# Altium integrated library Altium_WE-PD_rev22g.IntLib: 360 symbols (part 2 of 7)
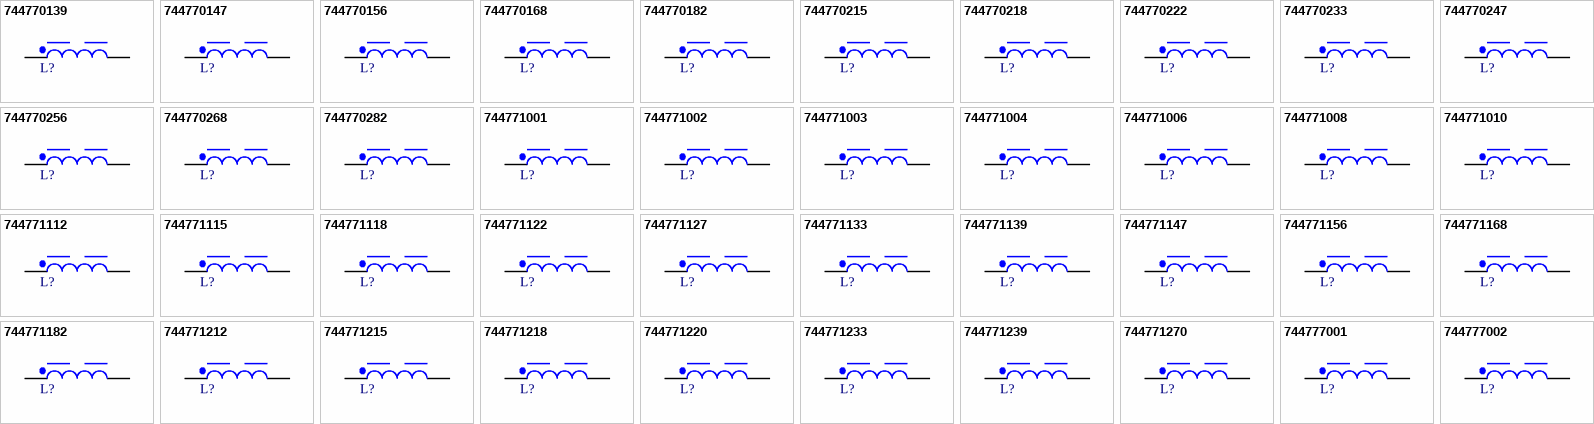
[diagram p9: symbols 744770139 to 744777002]

## 744771004
designator L?, comment 4.7uH, 8.25A  (value not drawn)
WE-PD SMT Power Inductor, size 1260, 4.7uH, 8.25A, 11mOhm; Manufacturer Part Number: 744771004; Manufacturer: Wurth Elektronik; Case/Size Code: 1260; DC Resistance: 8.5mOhm; Self Resonant Frequency: 35MHz; Type: Standard; Category: Power Inductors; Match Code: WE-PD; ComponentLink1Description: Website Link; ComponentLink1URL: https://www.we-online.com/redexpert/article/744771004?ad; ComponentLink2Description: Datasheet Link; ComponentLink2URL: https://www.we-online.com/redexpert/spec/744771004?ad; Mount: Surface Mount; Operating Temperature Max: 125°C; Operating Temperature Min: -40°C; Packaging: Tape and Reel; Length: 12mm; Width: 12mm; Height: 6mm; DC Resistance Max: 11mOhm; Inductance: 4.7uH; Rated Current: 8.25A; Saturation Current: 8.25A
footprint WE-PD_1260
simulation model 1260_744771004_4.7u
pins: 1, 2

## 744771006
designator L?, comment 6.8uH, 6.3A  (value not drawn)
WE-PD SMT Power Inductor, size 1260, 6.8uH, 6.3A, 18mOhm; Manufacturer Part Number: 744771006; Manufacturer: Wurth Elektronik; Case/Size Code: 1260; DC Resistance: 14mOhm; Saturation Current: 6.5A; Self Resonant Frequency: 27MHz; Type: Standard; Category: Power Inductors; Match Code: WE-PD; ComponentLink1Description: Website Link; ComponentLink1URL: https://www.we-online.com/redexpert/article/744771006?ad; ComponentLink2Description: Datasheet Link; ComponentLink2URL: https://www.we-online.com/redexpert/spec/744771006?ad; Mount: Surface Mount; Operating Temperature Max: 125°C; Operating Temperature Min: -40°C; Packaging: Tape and Reel; Length: 12mm; Width: 12mm; Height: 6mm; DC Resistance Max: 18mOhm; Inductance: 6.8uH; Rated Current: 6.3A
footprint WE-PD_1260
simulation model 1260_744771006_6.8u
pins: 1, 2

## 744771008
designator L?, comment 8.2uH, 6.2A  (value not drawn)
WE-PD SMT Power Inductor, size 1260, 8.2uH, 6.2A, 20mOhm; Manufacturer Part Number: 744771008; Manufacturer: Wurth Elektronik; Case/Size Code: 1260; DC Resistance: 15.5mOhm; Self Resonant Frequency: 25MHz; Type: Standard; Category: Power Inductors; Match Code: WE-PD; ComponentLink1Description: Website Link; ComponentLink1URL: https://www.we-online.com/redexpert/article/744771008?ad; ComponentLink2Description: Datasheet Link; ComponentLink2URL: https://www.we-online.com/redexpert/spec/744771008?ad; Mount: Surface Mount; Operating Temperature Max: 125°C; Operating Temperature Min: -40°C; Packaging: Tape and Reel; Length: 12mm; Width: 12mm; Height: 6mm; DC Resistance Max: 20mOhm; Inductance: 8.2uH; Rated Current: 6.2A; Saturation Current: 6.2A
footprint WE-PD_1260
simulation model 1260_744771008_8.2u
pins: 1, 2

## 744771010
designator L?, comment 1uH, 14A  (value not drawn)
WE-PD SMT Power Inductor, size 1260, 1uH, 14A, 5mOhm; Manufacturer Part Number: 744771010; Manufacturer: Wurth Elektronik; Case/Size Code: 1260; DC Resistance: 3mOhm; Saturation Current: 15.6A; Self Resonant Frequency: 88MHz; Category: Power Inductors; Match Code: WE-PD; ComponentLink1Description: Website Link; ComponentLink1URL: https://www.we-online.com/redexpert/article/744771010?ad; ComponentLink2Description: Datasheet Link; ComponentLink2URL: https://www.we-online.com/redexpert/spec/744771010?ad; Mount: Surface Mount; Operating Temperature Max: 125°C; Operating Temperature Min: -40°C; Packaging: Tape and Reel; Length: 12mm; Width: 12mm; Height: 6mm; DC Resistance Max: 5mOhm; Inductance: 1uH; Rated Current: 14A
footprint WE-PD_1260
simulation model 1260_744771010_1u
pins: 1, 2

## 744771112
designator L?, comment 12uH, 4.5A  (value not drawn)
WE-PD SMT Power Inductor, size 1260, 12uH, 4.5A, 26mOhm; Manufacturer Part Number: 744771112; Manufacturer: Wurth Elektronik; Case/Size Code: 1260; DC Resistance: 20mOhm; Saturation Current: 4.9A; Self Resonant Frequency: 19.7MHz; Type: Standard; Category: Power Inductors; Match Code: WE-PD; ComponentLink1Description: Website Link; ComponentLink1URL: https://www.we-online.com/redexpert/article/744771112?ad; ComponentLink2Description: Datasheet Link; ComponentLink2URL: https://www.we-online.com/redexpert/spec/744771112?ad; Mount: Surface Mount; Operating Temperature Max: 125°C; Operating Temperature Min: -40°C; Packaging: Tape and Reel; Length: 12mm; Width: 12mm; Height: 6mm; DC Resistance Max: 26mOhm; Inductance: 12uH; Rated Current: 4.5A
footprint WE-PD_1260
simulation model 1260_744771112_12u
pins: 1, 2

## 744771115
designator L?, comment 15uH, 4.2A  (value not drawn)
WE-PD SMT Power Inductor, size 1260, 15uH, 4.2A, 28mOhm; Manufacturer Part Number: 744771115; Manufacturer: Wurth Elektronik; Case/Size Code: 1260; DC Resistance: 22mOhm; Saturation Current: 4.5A; Self Resonant Frequency: 16.6MHz; Type: Standard; Category: Power Inductors; Match Code: WE-PD; ComponentLink1Description: Website Link; ComponentLink1URL: https://www.we-online.com/redexpert/article/744771115?ad; ComponentLink2Description: Datasheet Link; ComponentLink2URL: https://www.we-online.com/redexpert/spec/744771115?ad; Mount: Surface Mount; Operating Temperature Max: 125°C; Operating Temperature Min: -40°C; Packaging: Tape and Reel; Length: 12mm; Width: 12mm; Height: 6mm; DC Resistance Max: 28mOhm; Inductance: 15uH; Rated Current: 4.2A
footprint WE-PD_1260
simulation model 1260_744771115_15u
pins: 1, 2

## 744771118
designator L?, comment 18uH, 4A  (value not drawn)
WE-PD SMT Power Inductor, size 1260, 18uH, 4A, 30mOhm; Manufacturer Part Number: 744771118; Manufacturer: Wurth Elektronik; Case/Size Code: 1260; DC Resistance: 24mOhm; Saturation Current: 4.2A; Self Resonant Frequency: 15MHz; Type: Standard; Category: Power Inductors; Match Code: WE-PD; ComponentLink1Description: Website Link; ComponentLink1URL: https://www.we-online.com/redexpert/article/744771118?ad; ComponentLink2Description: Datasheet Link; ComponentLink2URL: https://www.we-online.com/redexpert/spec/744771118?ad; Mount: Surface Mount; Operating Temperature Max: 125°C; Operating Temperature Min: -40°C; Packaging: Tape and Reel; Length: 12mm; Width: 12mm; Height: 6mm; DC Resistance Max: 30mOhm; Inductance: 18uH; Rated Current: 4A
footprint WE-PD_1260
simulation model 1260_744771118_18u
pins: 1, 2

## 744771122
designator L?, comment 22uH, 3.5A  (value not drawn)
WE-PD SMT Power Inductor, size 1260, 22uH, 3.5A, 36mOhm; Manufacturer Part Number: 744771122; Manufacturer: Wurth Elektronik; Case/Size Code: 1260; DC Resistance: 30mOhm; Saturation Current: 3.7A; Self Resonant Frequency: 13.5MHz; Type: Standard; Category: Power Inductors; Match Code: WE-PD; ComponentLink1Description: Website Link; ComponentLink1URL: https://www.we-online.com/redexpert/article/744771122?ad; ComponentLink2Description: Datasheet Link; ComponentLink2URL: https://www.we-online.com/redexpert/spec/744771122?ad; Mount: Surface Mount; Operating Temperature Max: 125°C; Operating Temperature Min: -40°C; Packaging: Tape and Reel; Length: 12mm; Width: 12mm; Height: 6mm; DC Resistance Max: 36mOhm; Inductance: 22uH; Rated Current: 3.5A
footprint WE-PD_1260
simulation model 1260_744771122_22u
pins: 1, 2

## 744771127
designator L?, comment 27uH, 3.3A  (value not drawn)
WE-PD SMT Power Inductor, size 1260, 27uH, 3.3A, 45mOhm; Manufacturer Part Number: 744771127; Manufacturer: Wurth Elektronik; Case/Size Code: 1260; DC Resistance: 37mOhm; Saturation Current: 3.5A; Self Resonant Frequency: 12MHz; Type: Standard; Category: Power Inductors; Match Code: WE-PD; ComponentLink1Description: Website Link; ComponentLink1URL: https://www.we-online.com/redexpert/article/744771127?ad; ComponentLink2Description: Datasheet Link; ComponentLink2URL: https://www.we-online.com/redexpert/spec/744771127?ad; Mount: Surface Mount; Operating Temperature Max: 125°C; Operating Temperature Min: -40°C; Packaging: Tape and Reel; Length: 12mm; Width: 12mm; Height: 6mm; DC Resistance Max: 45mOhm; Inductance: 27uH; Rated Current: 3.3A
footprint WE-PD_1260
simulation model 1260_744771127_27u
pins: 1, 2

## 744771133
designator L?, comment 33uH, 2.8A  (value not drawn)
WE-PD SMT Power Inductor, size 1260, 33uH, 2.8A, 57mOhm; Manufacturer Part Number: 744771133; Manufacturer: Wurth Elektronik; Case/Size Code: 1260; DC Resistance: 49mOhm; Saturation Current: 3A; Self Resonant Frequency: 11MHz; Type: Standard; Category: Power Inductors; Match Code: WE-PD; ComponentLink1Description: Website Link; ComponentLink1URL: https://www.we-online.com/redexpert/article/744771133?ad; ComponentLink2Description: Datasheet Link; ComponentLink2URL: https://www.we-online.com/redexpert/spec/744771133?ad; Mount: Surface Mount; Operating Temperature Max: 125°C; Operating Temperature Min: -40°C; Packaging: Tape and Reel; Length: 12mm; Width: 12mm; Height: 6mm; DC Resistance Max: 57mOhm; Inductance: 33uH; Rated Current: 2.8A
footprint WE-PD_1260
simulation model 1260_744771133_33u
pins: 1, 2

## 744771139
designator L?, comment 39uH, 2.5A  (value not drawn)
WE-PD SMT Power Inductor, size 1260, 39uH, 2.5A, 68mOhm; Manufacturer Part Number: 744771139; Manufacturer: Wurth Elektronik; Case/Size Code: 1260; DC Resistance: 57mOhm; Saturation Current: 2.7A; Self Resonant Frequency: 10MHz; Type: Standard; Category: Power Inductors; Match Code: WE-PD; ComponentLink1Description: Website Link; ComponentLink1URL: https://www.we-online.com/redexpert/article/744771139?ad; ComponentLink2Description: Datasheet Link; ComponentLink2URL: https://www.we-online.com/redexpert/spec/744771139?ad; Mount: Surface Mount; Operating Temperature Max: 125°C; Operating Temperature Min: -40°C; Packaging: Tape and Reel; Length: 12mm; Width: 12mm; Height: 6mm; DC Resistance Max: 68mOhm; Inductance: 39uH; Rated Current: 2.5A
footprint WE-PD_1260
simulation model 1260_744771139_39u
pins: 1, 2

## 744771147
designator L?, comment 47uH, 2.4A  (value not drawn)
WE-PD SMT Power Inductor, size 1260, 47uH, 2.4A, 77mOhm; Manufacturer Part Number: 744771147; Manufacturer: Wurth Elektronik; Case/Size Code: 1260; DC Resistance: 64mOhm; Saturation Current: 2.6A; Self Resonant Frequency: 9.2MHz; Type: Standard; Category: Power Inductors; Match Code: WE-PD; ComponentLink1Description: Website Link; ComponentLink1URL: https://www.we-online.com/redexpert/article/744771147?ad; ComponentLink2Description: Datasheet Link; ComponentLink2URL: https://www.we-online.com/redexpert/spec/744771147?ad; Mount: Surface Mount; Operating Temperature Max: 125°C; Operating Temperature Min: -40°C; Packaging: Tape and Reel; Length: 12mm; Width: 12mm; Height: 6mm; DC Resistance Max: 77mOhm; Inductance: 47uH; Rated Current: 2.4A
footprint WE-PD_1260
simulation model 1260_744771147_47u
pins: 1, 2

## 744771156
designator L?, comment 56uH, 2.1A  (value not drawn)
WE-PD SMT Power Inductor, size 1260, 56uH, 2.1A, 92mOhm; Manufacturer Part Number: 744771156; Manufacturer: Wurth Elektronik; Case/Size Code: 1260; DC Resistance: 77mOhm; Saturation Current: 2.3A; Self Resonant Frequency: 8MHz; Type: Standard; Category: Power Inductors; Match Code: WE-PD; ComponentLink1Description: Website Link; ComponentLink1URL: https://www.we-online.com/redexpert/article/744771156?ad; ComponentLink2Description: Datasheet Link; ComponentLink2URL: https://www.we-online.com/redexpert/spec/744771156?ad; Mount: Surface Mount; Operating Temperature Max: 125°C; Operating Temperature Min: -40°C; Packaging: Tape and Reel; Length: 12mm; Width: 12mm; Height: 6mm; DC Resistance Max: 92mOhm; Inductance: 56uH; Rated Current: 2.1A
footprint WE-PD_1260
simulation model 1260_744771156_56u
pins: 1, 2

## 744771168
designator L?, comment 68uH, 2A  (value not drawn)
WE-PD SMT Power Inductor, size 1260, 68uH, 2A, 105mOhm; Manufacturer Part Number: 744771168; Manufacturer: Wurth Elektronik; Case/Size Code: 1260; DC Resistance: 86mOhm; Saturation Current: 2.2A; Self Resonant Frequency: 7.6MHz; Type: Standard; Category: Power Inductors; Match Code: WE-PD; ComponentLink1Description: Website Link; ComponentLink1URL: https://www.we-online.com/redexpert/article/744771168?ad; ComponentLink2Description: Datasheet Link; ComponentLink2URL: https://www.we-online.com/redexpert/spec/744771168?ad; Mount: Surface Mount; Operating Temperature Max: 125°C; Operating Temperature Min: -40°C; Packaging: Tape and Reel; Length: 12mm; Width: 12mm; Height: 6mm; DC Resistance Max: 105mOhm; Inductance: 68uH; Rated Current: 2A
footprint WE-PD_1260
simulation model 1260_744771168_68u
pins: 1, 2

## 744771182
designator L?, comment 82uH, 1.8A  (value not drawn)
WE-PD SMT Power Inductor, size 1260, 82uH, 1.8A, 135mOhm; Manufacturer Part Number: 744771182; Manufacturer: Wurth Elektronik; Case/Size Code: 1260; DC Resistance: 112mOhm; Saturation Current: 1.9A; Self Resonant Frequency: 7.2MHz; Type: Standard; Category: Power Inductors; Match Code: WE-PD; ComponentLink1Description: Website Link; ComponentLink1URL: https://www.we-online.com/redexpert/article/744771182?ad; ComponentLink2Description: Datasheet Link; ComponentLink2URL: https://www.we-online.com/redexpert/spec/744771182?ad; Mount: Surface Mount; Operating Temperature Max: 125°C; Operating Temperature Min: -40°C; Packaging: Tape and Reel; Length: 12mm; Width: 12mm; Height: 6mm; DC Resistance Max: 135mOhm; Inductance: 82uH; Rated Current: 1.8A
footprint WE-PD_1260
simulation model 1260_744771182_82u
pins: 1, 2

## 744771212
designator L?, comment 120uH, 1.5A  (value not drawn)
WE-PD SMT Power Inductor, size 1260, 120uH, 1.5A, 180mOhm; Manufacturer Part Number: 744771212; Manufacturer: Wurth Elektronik; Case/Size Code: 1260; DC Resistance: 150mOhm; Saturation Current: 1.6A; Self Resonant Frequency: 5.2MHz; Type: Standard; Category: Power Inductors; Match Code: WE-PD; ComponentLink1Description: Website Link; ComponentLink1URL: https://www.we-online.com/redexpert/article/744771212?ad; ComponentLink2Description: Datasheet Link; ComponentLink2URL: https://www.we-online.com/redexpert/spec/744771212?ad; Mount: Surface Mount; Operating Temperature Max: 125°C; Operating Temperature Min: -40°C; Packaging: Tape and Reel; Length: 12mm; Width: 12mm; Height: 6mm; DC Resistance Max: 180mOhm; Inductance: 120uH; Rated Current: 1.5A
footprint WE-PD_1260
simulation model 1260_744771212_120u
pins: 1, 2

## 744771215
designator L?, comment 150uH, 1.3A  (value not drawn)
WE-PD SMT Power Inductor, size 1260, 150uH, 1.3A, 220mOhm; Manufacturer Part Number: 744771215; Manufacturer: Wurth Elektronik; Case/Size Code: 1260; DC Resistance: 185mOhm; Saturation Current: 1.45A; Self Resonant Frequency: 4.4MHz; Type: Standard; Category: Power Inductors; Match Code: WE-PD; ComponentLink1Description: Website Link; ComponentLink1URL: https://www.we-online.com/redexpert/article/744771215?ad; ComponentLink2Description: Datasheet Link; ComponentLink2URL: https://www.we-online.com/redexpert/spec/744771215?ad; Mount: Surface Mount; Operating Temperature Max: 125°C; Operating Temperature Min: -40°C; Packaging: Tape and Reel; Length: 12mm; Width: 12mm; Height: 6mm; DC Resistance Max: 220mOhm; Inductance: 150uH; Rated Current: 1.3A
footprint WE-PD_1260
simulation model 1260_744771215_150u
pins: 1, 2

## 744771218
designator L?, comment 180uH, 1.15A  (value not drawn)
WE-PD SMT Power Inductor, size 1260, 180uH, 1.15A, 280mOhm; Manufacturer Part Number: 744771218; Manufacturer: Wurth Elektronik; Case/Size Code: 1260; DC Resistance: 230mOhm; Saturation Current: 1.25A; Self Resonant Frequency: 4.1MHz; Type: Standard; Category: Power Inductors; Match Code: WE-PD; ComponentLink1Description: Website Link; ComponentLink1URL: https://www.we-online.com/redexpert/article/744771218?ad; ComponentLink2Description: Datasheet Link; ComponentLink2URL: https://www.we-online.com/redexpert/spec/744771218?ad; Mount: Surface Mount; Operating Temperature Max: 125°C; Operating Temperature Min: -40°C; Packaging: Tape and Reel; Length: 12mm; Width: 12mm; Height: 6mm; DC Resistance Max: 280mOhm; Inductance: 180uH; Rated Current: 1.15A
footprint WE-PD_1260
simulation model 1260_744771218_180u
pins: 1, 2

## 744771220
designator L?, comment 220uH, 1.1A  (value not drawn)
WE-PD SMT Power Inductor, size 1260, 220uH, 1.1A, 340mOhm; Manufacturer Part Number: 744771220; Manufacturer: Wurth Elektronik; Case/Size Code: 1260; DC Resistance: 280mOhm; Saturation Current: 1.2A; Self Resonant Frequency: 3.8MHz; Type: Standard; Category: Power Inductors; Match Code: WE-PD; ComponentLink1Description: Website Link; ComponentLink1URL: https://www.we-online.com/redexpert/article/744771220?ad; ComponentLink2Description: Datasheet Link; ComponentLink2URL: https://www.we-online.com/redexpert/spec/744771220?ad; Mount: Surface Mount; Operating Temperature Max: 125°C; Operating Temperature Min: -40°C; Packaging: Tape and Reel; Length: 12mm; Width: 12mm; Height: 6mm; DC Resistance Max: 340mOhm; Inductance: 220uH; Rated Current: 1.1A
footprint WE-PD_1260
simulation model 1260_744771220_220u
pins: 1, 2

## 744771233
designator L?, comment 330uH, 0.85A  (value not drawn)
WE-PD SMT Power Inductor, size 1260, 330uH, 0.85A, 490mOhm; Manufacturer Part Number: 744771233; Manufacturer: Wurth Elektronik; Case/Size Code: 1260; DC Resistance: 410mOhm; Saturation Current: 0.97A; Self Resonant Frequency: 3MHz; Type: Standard; Category: Power Inductors; Match Code: WE-PD; ComponentLink1Description: Website Link; ComponentLink1URL: https://www.we-online.com/redexpert/article/744771233?ad; ComponentLink2Description: Datasheet Link; ComponentLink2URL: https://www.we-online.com/redexpert/spec/744771233?ad; Mount: Surface Mount; Operating Temperature Max: 125°C; Operating Temperature Min: -40°C; Packaging: Tape and Reel; Length: 12mm; Width: 12mm; Height: 6mm; DC Resistance Max: 490mOhm; Inductance: 330uH; Rated Current: 0.85A
footprint WE-PD_1260
simulation model 1260_744771233_330u
pins: 1, 2

## 744771239
designator L?, comment 390uH, 0.75A  (value not drawn)
WE-PD SMT Power Inductor, size 1260, 390uH, 0.75A, 640mOhm; Manufacturer Part Number: 744771239; Manufacturer: Wurth Elektronik; Case/Size Code: 1260; DC Resistance: 540mOhm; Saturation Current: 0.85A; Self Resonant Frequency: 2.8MHz; Type: Standard; Category: Power Inductors; Match Code: WE-PD; ComponentLink1Description: Website Link; ComponentLink1URL: https://www.we-online.com/redexpert/article/744771239?ad; ComponentLink2Description: Datasheet Link; ComponentLink2URL: https://www.we-online.com/redexpert/spec/744771239?ad; Mount: Surface Mount; Operating Temperature Max: 125°C; Operating Temperature Min: -40°C; Packaging: Tape and Reel; Length: 12mm; Width: 12mm; Height: 6mm; DC Resistance Max: 640mOhm; Inductance: 390uH; Rated Current: 0.75A
footprint WE-PD_1260
simulation model 1260_744771239_390u
pins: 1, 2

## 744771270
designator L?, comment 270uH, 0.9A  (value not drawn)
WE-PD SMT Power Inductor, size 1260, 270uH, 0.9A, 400mOhm; Manufacturer Part Number: 744771270; Manufacturer: Wurth Elektronik; Case/Size Code: 1260; DC Resistance: 330mOhm; Saturation Current: 1A; Self Resonant Frequency: 3.4MHz; Type: Standard; Category: Power Inductors; Match Code: WE-PD; ComponentLink1Description: Website Link; ComponentLink1URL: https://www.we-online.com/redexpert/article/744771270?ad; ComponentLink2Description: Datasheet Link; ComponentLink2URL: https://www.we-online.com/redexpert/spec/744771270?ad; Mount: Surface Mount; Operating Temperature Max: 125°C; Operating Temperature Min: -40°C; Packaging: Tape and Reel; Length: 12mm; Width: 12mm; Height: 6mm; DC Resistance Max: 400mOhm; Inductance: 270uH; Rated Current: 0.9A
footprint WE-PD_1260
simulation model 1260_744771270_270u
pins: 1, 2

## 744777001
designator L?, comment 1uH, 6.84A  (value not drawn)
WE-PD SMT Power Inductor, size 7345, 1uH, 6.84A, 10mOhm; Manufacturer Part Number: 744777001; Manufacturer: Wurth Elektronik; Case/Size Code: 7345; DC Resistance: 8.4mOhm; Saturation Current: 10.2A; Self Resonant Frequency: 100MHz; Type: Standard; Category: Power Inductors; Match Code: WE-PD; ComponentLink1Description: Website Link; ComponentLink1URL: https://www.we-online.com/redexpert/article/744777001?ad; ComponentLink2Description: Datasheet Link; ComponentLink2URL: https://www.we-online.com/redexpert/spec/744777001?ad; Mount: Surface Mount; Operating Temperature Max: 125°C; Operating Temperature Min: -40°C; Packaging: Tape and Reel; Length: 7.3mm; Width: 7.3mm; Height: 4.5mm; DC Resistance Max: 10mOhm; Inductance: 1uH; Rated Current: 6.84A
footprint WE-PD_7345
simulation model 7345_744777001_1u
pins: 1, 2

## 744777002
designator L?, comment 2.2uH, 6A  (value not drawn)
WE-PD SMT Power Inductor, size 7345, 2.2uH, 6A, 20mOhm; Manufacturer Part Number: 744777002; Manufacturer: Wurth Elektronik; Case/Size Code: 7345; DC Resistance: 13mOhm; Saturation Current: 6.5A; Self Resonant Frequency: 60MHz; Type: Standard; Category: Power Inductors; Match Code: WE-PD; ComponentLink1Description: Website Link; ComponentLink1URL: https://www.we-online.com/redexpert/article/744777002?ad; ComponentLink2Description: Datasheet Link; ComponentLink2URL: https://www.we-online.com/redexpert/spec/744777002?ad; Mount: Surface Mount; Operating Temperature Max: 125°C; Operating Temperature Min: -40°C; Packaging: Tape and Reel; Length: 7.3mm; Width: 7.3mm; Height: 4.5mm; DC Resistance Max: 20mOhm; Inductance: 2.2uH; Rated Current: 6A
footprint WE-PD_7345
simulation model 7345_744777002_2.2u
pins: 1, 2

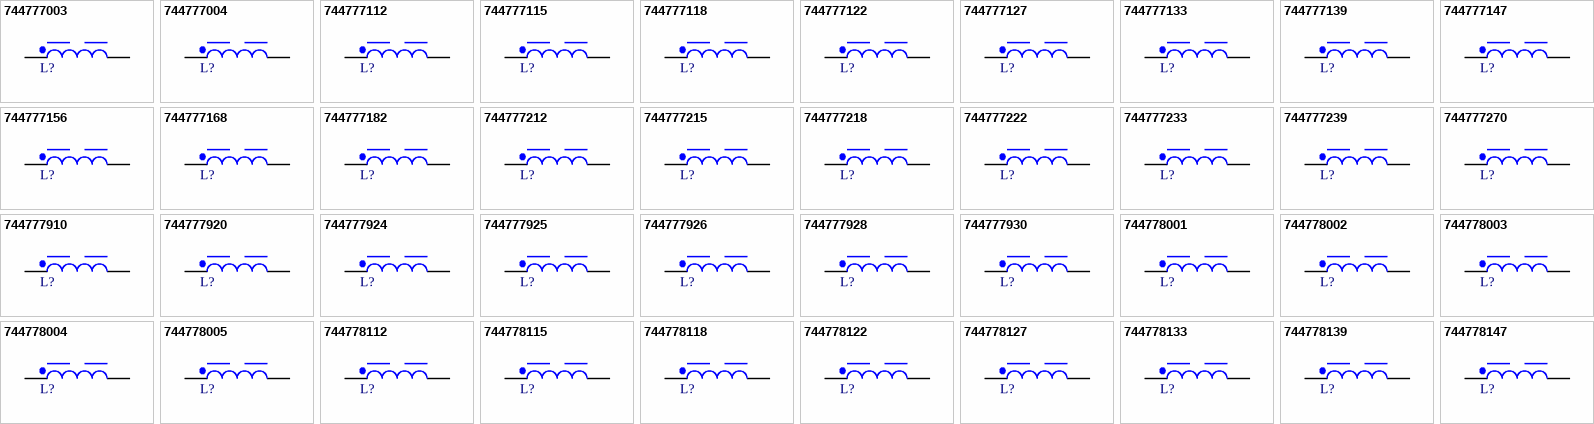
[diagram p2: symbols 744777003 to 744778147]

## 744777003
designator L?, comment 3.3uH, 3.5A  (value not drawn)
WE-PD SMT Power Inductor, size 7345, 3.3uH, 3.5A, 30mOhm; Manufacturer Part Number: 744777003; Manufacturer: Wurth Elektronik; Case/Size Code: 7345; DC Resistance: 25mOhm; Saturation Current: 4.6A; Self Resonant Frequency: 55MHz; Type: Standard; Category: Power Inductors; Match Code: WE-PD; ComponentLink1Description: Website Link; ComponentLink1URL: https://www.we-online.com/redexpert/article/744777003?ad; ComponentLink2Description: Datasheet Link; ComponentLink2URL: https://www.we-online.com/redexpert/spec/744777003?ad; Mount: Surface Mount; Operating Temperature Max: 125°C; Operating Temperature Min: -40°C; Packaging: Tape and Reel; Length: 7.3mm; Width: 7.3mm; Height: 4.5mm; DC Resistance Max: 30mOhm; Inductance: 3.3uH; Rated Current: 3.5A
footprint WE-PD_7345
simulation model 7345_744777003_3.3u
pins: 1, 2

## 744777004
designator L?, comment 4.7uH, 3.2A  (value not drawn)
WE-PD SMT Power Inductor, size 7345, 4.7uH, 3.2A, 40mOhm; Manufacturer Part Number: 744777004; Manufacturer: Wurth Elektronik; Case/Size Code: 7345; DC Resistance: 25mOhm; Saturation Current: 4A; Self Resonant Frequency: 37MHz; Type: Standard; Category: Power Inductors; Match Code: WE-PD; ComponentLink1Description: Website Link; ComponentLink1URL: https://www.we-online.com/redexpert/article/744777004?ad; ComponentLink2Description: Datasheet Link; ComponentLink2URL: https://www.we-online.com/redexpert/spec/744777004?ad; Mount: Surface Mount; Operating Temperature Max: 125°C; Operating Temperature Min: -40°C; Packaging: Tape and Reel; Length: 7.3mm; Width: 7.3mm; Height: 4.5mm; DC Resistance Max: 40mOhm; Inductance: 4.7uH; Rated Current: 3.2A
footprint WE-PD_7345
simulation model 7345_744777004_4.7u
pins: 1, 2

## 744777112
designator L?, comment 12uH, 1.82A  (value not drawn)
WE-PD SMT Power Inductor, size 7345, 12uH, 1.82A, 58mOhm; Manufacturer Part Number: 744777112; Manufacturer: Wurth Elektronik; Case/Size Code: 7345; DC Resistance: 54mOhm; Saturation Current: 2.4A; Self Resonant Frequency: 23MHz; Type: Standard; Category: Power Inductors; Match Code: WE-PD; ComponentLink1Description: Website Link; ComponentLink1URL: https://www.we-online.com/redexpert/article/744777112?ad; ComponentLink2Description: Datasheet Link; ComponentLink2URL: https://www.we-online.com/redexpert/spec/744777112?ad; Mount: Surface Mount; Operating Temperature Max: 125°C; Operating Temperature Min: -40°C; Packaging: Tape and Reel; Length: 7.3mm; Width: 7.3mm; Height: 4.5mm; DC Resistance Max: 58mOhm; Inductance: 12uH; Rated Current: 1.82A
footprint WE-PD_7345
simulation model 7345_744777112_12u
pins: 1, 2

## 744777115
designator L?, comment 15uH, 1.6A  (value not drawn)
WE-PD SMT Power Inductor, size 7345, 15uH, 1.6A, 81mOhm; Manufacturer Part Number: 744777115; Manufacturer: Wurth Elektronik; Case/Size Code: 7345; DC Resistance: 70mOhm; Saturation Current: 2.2A; Self Resonant Frequency: 19.5MHz; Type: Standard; Category: Power Inductors; Match Code: WE-PD; ComponentLink1Description: Website Link; ComponentLink1URL: https://www.we-online.com/redexpert/article/744777115?ad; ComponentLink2Description: Datasheet Link; ComponentLink2URL: https://www.we-online.com/redexpert/spec/744777115?ad; Mount: Surface Mount; Operating Temperature Max: 125°C; Operating Temperature Min: -40°C; Packaging: Tape and Reel; Length: 7.3mm; Width: 7.3mm; Height: 4.5mm; DC Resistance Max: 81mOhm; Inductance: 15uH; Rated Current: 1.6A
footprint WE-PD_7345
simulation model 7345_744777115_15u
pins: 1, 2

## 744777118
designator L?, comment 18uH, 1.5A  (value not drawn)
WE-PD SMT Power Inductor, size 7345, 18uH, 1.5A, 91mOhm; Manufacturer Part Number: 744777118; Manufacturer: Wurth Elektronik; Case/Size Code: 7345; DC Resistance: 80mOhm; Saturation Current: 2.05A; Self Resonant Frequency: 19MHz; Type: Standard; Category: Power Inductors; Match Code: WE-PD; ComponentLink1Description: Website Link; ComponentLink1URL: https://www.we-online.com/redexpert/article/744777118?ad; ComponentLink2Description: Datasheet Link; ComponentLink2URL: https://www.we-online.com/redexpert/spec/744777118?ad; Mount: Surface Mount; Operating Temperature Max: 125°C; Operating Temperature Min: -40°C; Packaging: Tape and Reel; Length: 7.3mm; Width: 7.3mm; Height: 4.5mm; DC Resistance Max: 91mOhm; Inductance: 18uH; Rated Current: 1.5A
footprint WE-PD_7345
simulation model 7345_744777118_18u
pins: 1, 2

## 744777122
designator L?, comment 22uH, 1.41A  (value not drawn)
WE-PD SMT Power Inductor, size 7345, 22uH, 1.41A, 110mOhm; Manufacturer Part Number: 744777122; Manufacturer: Wurth Elektronik; Case/Size Code: 7345; DC Resistance: 90mOhm; Saturation Current: 1.7A; Self Resonant Frequency: 17MHz; Type: Standard; Category: Power Inductors; Match Code: WE-PD; ComponentLink1Description: Website Link; ComponentLink1URL: https://www.we-online.com/redexpert/article/744777122?ad; ComponentLink2Description: Datasheet Link; ComponentLink2URL: https://www.we-online.com/redexpert/spec/744777122?ad; Mount: Surface Mount; Operating Temperature Max: 125°C; Operating Temperature Min: -40°C; Packaging: Tape and Reel; Length: 7.3mm; Width: 7.3mm; Height: 4.5mm; DC Resistance Max: 110mOhm; Inductance: 22uH; Rated Current: 1.41A
footprint WE-PD_7345
simulation model 7345_744777122_22u
pins: 1, 2

## 744777127
designator L?, comment 27uH, 1.24A  (value not drawn)
WE-PD SMT Power Inductor, size 7345, 27uH, 1.24A, 150mOhm; Manufacturer Part Number: 744777127; Manufacturer: Wurth Elektronik; Case/Size Code: 7345; DC Resistance: 117mOhm; Saturation Current: 1.55A; Self Resonant Frequency: 15MHz; Type: Standard; Category: Power Inductors; Match Code: WE-PD; ComponentLink1Description: Website Link; ComponentLink1URL: https://www.we-online.com/redexpert/article/744777127?ad; ComponentLink2Description: Datasheet Link; ComponentLink2URL: https://www.we-online.com/redexpert/spec/744777127?ad; Mount: Surface Mount; Operating Temperature Max: 125°C; Operating Temperature Min: -40°C; Packaging: Tape and Reel; Length: 7.3mm; Width: 7.3mm; Height: 4.5mm; DC Resistance Max: 150mOhm; Inductance: 27uH; Rated Current: 1.24A
footprint WE-PD_7345
simulation model 7345_744777127_27u
pins: 1, 2

## 744777133
designator L?, comment 33uH, 1.13A  (value not drawn)
WE-PD SMT Power Inductor, size 7345, 33uH, 1.13A, 170mOhm; Manufacturer Part Number: 744777133; Manufacturer: Wurth Elektronik; Case/Size Code: 7345; DC Resistance: 140mOhm; Saturation Current: 1.4A; Self Resonant Frequency: 13MHz; Type: Standard; Category: Power Inductors; Match Code: WE-PD; ComponentLink1Description: Website Link; ComponentLink1URL: https://www.we-online.com/redexpert/article/744777133?ad; ComponentLink2Description: Datasheet Link; ComponentLink2URL: https://www.we-online.com/redexpert/spec/744777133?ad; Mount: Surface Mount; Operating Temperature Max: 125°C; Operating Temperature Min: -40°C; Packaging: Tape and Reel; Length: 7.3mm; Width: 7.3mm; Height: 4.5mm; DC Resistance Max: 170mOhm; Inductance: 33uH; Rated Current: 1.13A
footprint WE-PD_7345
simulation model 7345_744777133_33u
pins: 1, 2

## 744777139
designator L?, comment 39uH, 1.11A  (value not drawn)
WE-PD SMT Power Inductor, size 7345, 39uH, 1.11A, 230mOhm; Manufacturer Part Number: 744777139; Manufacturer: Wurth Elektronik; Case/Size Code: 7345; DC Resistance: 145mOhm; Saturation Current: 1.23A; Self Resonant Frequency: 12MHz; Type: Standard; Category: Power Inductors; Match Code: WE-PD; ComponentLink1Description: Website Link; ComponentLink1URL: https://www.we-online.com/redexpert/article/744777139?ad; ComponentLink2Description: Datasheet Link; ComponentLink2URL: https://www.we-online.com/redexpert/spec/744777139?ad; Mount: Surface Mount; Operating Temperature Max: 125°C; Operating Temperature Min: -40°C; Packaging: Tape and Reel; Length: 7.3mm; Width: 7.3mm; Height: 4.5mm; DC Resistance Max: 230mOhm; Inductance: 39uH; Rated Current: 1.11A
footprint WE-PD_7345
simulation model 7345_744777139_39u
pins: 1, 2

## 744777147
designator L?, comment 47uH, 1.03A  (value not drawn)
WE-PD SMT Power Inductor, size 7345, 47uH, 1.03A, 260mOhm; Manufacturer Part Number: 744777147; Manufacturer: Wurth Elektronik; Case/Size Code: 7345; DC Resistance: 170mOhm; Saturation Current: 1.1A; Self Resonant Frequency: 10.5MHz; Type: Standard; Category: Power Inductors; Match Code: WE-PD; ComponentLink1Description: Website Link; ComponentLink1URL: https://www.we-online.com/redexpert/article/744777147?ad; ComponentLink2Description: Datasheet Link; ComponentLink2URL: https://www.we-online.com/redexpert/spec/744777147?ad; Mount: Surface Mount; Operating Temperature Max: 125°C; Operating Temperature Min: -40°C; Packaging: Tape and Reel; Length: 7.3mm; Width: 7.3mm; Height: 4.5mm; DC Resistance Max: 260mOhm; Inductance: 47uH; Rated Current: 1.03A
footprint WE-PD_7345
simulation model 7345_744777147_47u
pins: 1, 2

## 744777156
designator L?, comment 56uH, 0.93A  (value not drawn)
WE-PD SMT Power Inductor, size 7345, 56uH, 0.93A, 350mOhm; Manufacturer Part Number: 744777156; Manufacturer: Wurth Elektronik; Case/Size Code: 7345; DC Resistance: 210mOhm; Saturation Current: 1.05A; Self Resonant Frequency: 10MHz; Type: Standard; Category: Power Inductors; Match Code: WE-PD; ComponentLink1Description: Website Link; ComponentLink1URL: https://www.we-online.com/redexpert/article/744777156?ad; ComponentLink2Description: Datasheet Link; ComponentLink2URL: https://www.we-online.com/redexpert/spec/744777156?ad; Mount: Surface Mount; Operating Temperature Max: 125°C; Operating Temperature Min: -40°C; Packaging: Tape and Reel; Length: 7.3mm; Width: 7.3mm; Height: 4.5mm; DC Resistance Max: 350mOhm; Inductance: 56uH; Rated Current: 0.93A
footprint WE-PD_7345
simulation model 7345_744777156_56u
pins: 1, 2

## 744777168
designator L?, comment 68uH, 0.87A  (value not drawn)
WE-PD SMT Power Inductor, size 7345, 68uH, 0.87A, 380mOhm; Manufacturer Part Number: 744777168; Manufacturer: Wurth Elektronik; Case/Size Code: 7345; DC Resistance: 240mOhm; Saturation Current: 0.95A; Self Resonant Frequency: 9MHz; Type: Standard; Category: Power Inductors; Match Code: WE-PD; ComponentLink1Description: Website Link; ComponentLink1URL: https://www.we-online.com/redexpert/article/744777168?ad; ComponentLink2Description: Datasheet Link; ComponentLink2URL: https://www.we-online.com/redexpert/spec/744777168?ad; Mount: Surface Mount; Operating Temperature Max: 125°C; Operating Temperature Min: -40°C; Packaging: Tape and Reel; Length: 7.3mm; Width: 7.3mm; Height: 4.5mm; DC Resistance Max: 380mOhm; Inductance: 68uH; Rated Current: 0.87A
footprint WE-PD_7345
simulation model 7345_744777168_68u
pins: 1, 2

## 744777182
designator L?, comment 82uH, 0.84A  (value not drawn)
WE-PD SMT Power Inductor, size 7345, 82uH, 0.84A, 430mOhm; Manufacturer Part Number: 744777182; Manufacturer: Wurth Elektronik; Case/Size Code: 7345; DC Resistance: 260mOhm; Saturation Current: 0.9A; Self Resonant Frequency: 8MHz; Type: Standard; Category: Power Inductors; Match Code: WE-PD; ComponentLink1Description: Website Link; ComponentLink1URL: https://www.we-online.com/redexpert/article/744777182?ad; ComponentLink2Description: Datasheet Link; ComponentLink2URL: https://www.we-online.com/redexpert/spec/744777182?ad; Mount: Surface Mount; Operating Temperature Max: 125°C; Operating Temperature Min: -40°C; Packaging: Tape and Reel; Length: 7.3mm; Width: 7.3mm; Height: 4.5mm; DC Resistance Max: 430mOhm; Inductance: 82uH; Rated Current: 0.84A
footprint WE-PD_7345
simulation model 7345_744777182_82u
pins: 1, 2

## 744777212
designator L?, comment 120uH, 0.67A  (value not drawn)
WE-PD SMT Power Inductor, size 7345, 120uH, 0.67A, 660mOhm; Manufacturer Part Number: 744777212; Manufacturer: Wurth Elektronik; Case/Size Code: 7345; DC Resistance: 400mOhm; Saturation Current: 0.7A; Self Resonant Frequency: 6.7MHz; Type: Standard; Category: Power Inductors; Match Code: WE-PD; ComponentLink1Description: Website Link; ComponentLink1URL: https://www.we-online.com/redexpert/article/744777212?ad; ComponentLink2Description: Datasheet Link; ComponentLink2URL: https://www.we-online.com/redexpert/spec/744777212?ad; Mount: Surface Mount; Operating Temperature Max: 125°C; Operating Temperature Min: -40°C; Packaging: Tape and Reel; Length: 7.3mm; Width: 7.3mm; Height: 4.5mm; DC Resistance Max: 660mOhm; Inductance: 120uH; Rated Current: 0.67A
footprint WE-PD_7345
simulation model 7345_744777212_120u
pins: 1, 2

## 744777215
designator L?, comment 150uH, 0.52A  (value not drawn)
WE-PD SMT Power Inductor, size 7345, 150uH, 0.52A, 880mOhm; Manufacturer Part Number: 744777215; Manufacturer: Wurth Elektronik; Case/Size Code: 7345; DC Resistance: 660mOhm; Saturation Current: 0.63A; Self Resonant Frequency: 6MHz; Type: Standard; Category: Power Inductors; Match Code: WE-PD; ComponentLink1Description: Website Link; ComponentLink1URL: https://www.we-online.com/redexpert/article/744777215?ad; ComponentLink2Description: Datasheet Link; ComponentLink2URL: https://www.we-online.com/redexpert/spec/744777215?ad; Mount: Surface Mount; Operating Temperature Max: 125°C; Operating Temperature Min: -40°C; Packaging: Tape and Reel; Length: 7.3mm; Width: 7.3mm; Height: 4.5mm; DC Resistance Max: 880mOhm; Inductance: 150uH; Rated Current: 0.52A
footprint WE-PD_7345
simulation model 7345_744777215_150u
pins: 1, 2

## 744777218
designator L?, comment 180uH, 0.51A  (value not drawn)
WE-PD SMT Power Inductor, size 7345, 180uH, 0.51A, 980mOhm; Manufacturer Part Number: 744777218; Manufacturer: Wurth Elektronik; Case/Size Code: 7345; DC Resistance: 680mOhm; Saturation Current: 0.56A; Self Resonant Frequency: 5.3MHz; Type: Standard; Category: Power Inductors; Match Code: WE-PD; ComponentLink1Description: Website Link; ComponentLink1URL: https://www.we-online.com/redexpert/article/744777218?ad; ComponentLink2Description: Datasheet Link; ComponentLink2URL: https://www.we-online.com/redexpert/spec/744777218?ad; Mount: Surface Mount; Operating Temperature Max: 125°C; Operating Temperature Min: -40°C; Packaging: Tape and Reel; Length: 7.3mm; Width: 7.3mm; Height: 4.5mm; DC Resistance Max: 980mOhm; Inductance: 180uH; Rated Current: 0.51A
footprint WE-PD_7345
simulation model 7345_744777218_180u
pins: 1, 2

## 744777222
designator L?, comment 220uH, 0.44A  (value not drawn)
WE-PD SMT Power Inductor, size 7345, 220uH, 0.44A, 1170mOhm; Manufacturer Part Number: 744777222; Manufacturer: Wurth Elektronik; Case/Size Code: 7345; DC Resistance: 920mOhm; Saturation Current: 0.54A; Self Resonant Frequency: 5MHz; Type: Standard; Category: Power Inductors; Match Code: WE-PD; ComponentLink1Description: Website Link; ComponentLink1URL: https://www.we-online.com/redexpert/article/744777222?ad; ComponentLink2Description: Datasheet Link; ComponentLink2URL: https://www.we-online.com/redexpert/spec/744777222?ad; Mount: Surface Mount; Operating Temperature Max: 125°C; Operating Temperature Min: -40°C; Packaging: Tape and Reel; Length: 7.3mm; Width: 7.3mm; Height: 4.5mm; DC Resistance Max: 1170mOhm; Inductance: 220uH; Rated Current: 0.44A
footprint WE-PD_7345
simulation model 7345_744777222_220u
pins: 1, 2

## 744777233
designator L?, comment 330uH, 0.39A  (value not drawn)
WE-PD SMT Power Inductor, size 7345, 330uH, 0.39A, 1860mOhm; Manufacturer Part Number: 744777233; Manufacturer: Wurth Elektronik; Case/Size Code: 7345; DC Resistance: 1150mOhm; Saturation Current: 0.45A; Self Resonant Frequency: 4MHz; Type: Standard; Category: Power Inductors; Match Code: WE-PD; ComponentLink1Description: Website Link; ComponentLink1URL: https://www.we-online.com/redexpert/article/744777233?ad; ComponentLink2Description: Datasheet Link; ComponentLink2URL: https://www.we-online.com/redexpert/spec/744777233?ad; Mount: Surface Mount; Operating Temperature Max: 125°C; Operating Temperature Min: -40°C; Packaging: Tape and Reel; Length: 7.3mm; Width: 7.3mm; Height: 4.5mm; DC Resistance Max: 1860mOhm; Inductance: 330uH; Rated Current: 0.39A
footprint WE-PD_7345
simulation model 7345_744777233_330u
pins: 1, 2

## 744777239
designator L?, comment 390uH, 0.38A  (value not drawn)
WE-PD SMT Power Inductor, size 7345, 390uH, 0.38A, 2850mOhm; Manufacturer Part Number: 744777239; Manufacturer: Wurth Elektronik; Case/Size Code: 7345; DC Resistance: 1250mOhm; Saturation Current: 0.42A; Self Resonant Frequency: 3.8MHz; Type: Standard; Category: Power Inductors; Match Code: WE-PD; ComponentLink1Description: Website Link; ComponentLink1URL: https://www.we-online.com/redexpert/article/744777239?ad; ComponentLink2Description: Datasheet Link; ComponentLink2URL: https://www.we-online.com/redexpert/spec/744777239?ad; Mount: Surface Mount; Operating Temperature Max: 125°C; Operating Temperature Min: -40°C; Packaging: Tape and Reel; Length: 7.3mm; Width: 7.3mm; Height: 4.5mm; DC Resistance Max: 2850mOhm; Inductance: 390uH; Rated Current: 0.38A
footprint WE-PD_7345
simulation model 7345_744777239_390u
pins: 1, 2

## 744777270
designator L?, comment 270uH, 0.43A  (value not drawn)
WE-PD SMT Power Inductor, size 7345, 270uH, 0.43A, 1640mOhm; Manufacturer Part Number: 744777270; Manufacturer: Wurth Elektronik; Case/Size Code: 7345; DC Resistance: 970mOhm; Saturation Current: 0.48A; Self Resonant Frequency: 4.3MHz; Type: Standard; Category: Power Inductors; Match Code: WE-PD; ComponentLink1Description: Website Link; ComponentLink1URL: https://www.we-online.com/redexpert/article/744777270?ad; ComponentLink2Description: Datasheet Link; ComponentLink2URL: https://www.we-online.com/redexpert/spec/744777270?ad; Mount: Surface Mount; Operating Temperature Max: 125°C; Operating Temperature Min: -40°C; Packaging: Tape and Reel; Length: 7.3mm; Width: 7.3mm; Height: 4.5mm; DC Resistance Max: 1640mOhm; Inductance: 270uH; Rated Current: 0.43A
footprint WE-PD_7345
simulation model 7345_744777270_270u
pins: 1, 2

## 744777910
designator L?, comment 10uH, 2A  (value not drawn)
WE-PD SMT Power Inductor, size 7345R, 10uH, 2A, 49mOhm; Manufacturer Part Number: 744777910; Manufacturer: Wurth Elektronik; DC Resistance: 45mOhm; Saturation Current: 2.6A; Self Resonant Frequency: 26MHz; Type: Robust; Category: Power Inductors; Match Code: WE-PD; ComponentLink1Description: Website Link; ComponentLink1URL: https://www.we-online.com/redexpert/article/744777910?ad; ComponentLink2Description: Datasheet Link; ComponentLink2URL: https://www.we-online.com/redexpert/spec/744777910?ad; Mount: Surface Mount; Operating Temperature Max: 125°C; Operating Temperature Min: -40°C; Packaging: Tape and Reel; Case/Size Code: 7345R; Length: 7.3mm; Width: 7.3mm; Height: 4.5mm; DC Resistance Max: 49mOhm; Inductance: 10uH; Rated Current: 2A
footprint WE-PD_7345R
simulation model 7345_744777910_10u
pins: 1, 2

## 744777920
designator L?, comment 100uH, 0.79A  (value not drawn)
WE-PD SMT Power Inductor, size 7345R, 100uH, 0.79A, 380mOhm; Manufacturer Part Number: 744777920; Manufacturer: Wurth Elektronik; DC Resistance: 290mOhm; Saturation Current: 0.75A; Self Resonant Frequency: 7.5MHz; Type: Robust; Category: Power Inductors; Match Code: WE-PD; ComponentLink1Description: Website Link; ComponentLink1URL: https://www.we-online.com/redexpert/article/744777920?ad; ComponentLink2Description: Datasheet Link; ComponentLink2URL: https://www.we-online.com/redexpert/spec/744777920?ad; Mount: Surface Mount; Operating Temperature Max: 125°C; Operating Temperature Min: -40°C; Packaging: Tape and Reel; Case/Size Code: 7345R; Length: 7.3mm; Width: 7.3mm; Height: 4.5mm; DC Resistance Max: 380mOhm; Inductance: 100uH; Rated Current: 0.79A
footprint WE-PD_7345R
simulation model 7345_744777920_100u
pins: 1, 2

## 744777924
designator L?, comment 470uH, 0.29A  (value not drawn)
WE-PD SMT Power Inductor, size 7345R, 470uH, 0.29A, 3010mOhm; Manufacturer Part Number: 744777924; Manufacturer: Wurth Elektronik; DC Resistance: 1600mOhm; Saturation Current: 0.34A; Self Resonant Frequency: 3.2MHz; Type: Robust; Category: Power Inductors; Match Code: WE-PD; ComponentLink1Description: Website Link; ComponentLink1URL: https://www.we-online.com/redexpert/article/744777924?ad; ComponentLink2Description: Datasheet Link; ComponentLink2URL: https://www.we-online.com/redexpert/spec/744777924?ad; Mount: Surface Mount; Operating Temperature Max: 125°C; Operating Temperature Min: -40°C; Packaging: Tape and Reel; Case/Size Code: 7345R; Length: 7.3mm; Width: 7.3mm; Height: 4.5mm; DC Resistance Max: 3010mOhm; Inductance: 470uH; Rated Current: 0.29A
footprint WE-PD_7345R
simulation model 7345_744777924_470u
pins: 1, 2

## 744777925
designator L?, comment 560uH, 0.28A  (value not drawn)
WE-PD SMT Power Inductor, size 7345R, 560uH, 0.28A, 3620mOhm; Manufacturer Part Number: 744777925; Manufacturer: Wurth Elektronik; DC Resistance: 1720mOhm; Saturation Current: 0.31A; Self Resonant Frequency: 3MHz; Type: Robust; Category: Power Inductors; Match Code: WE-PD; ComponentLink1Description: Website Link; ComponentLink1URL: https://www.we-online.com/redexpert/article/744777925?ad; ComponentLink2Description: Datasheet Link; ComponentLink2URL: https://www.we-online.com/redexpert/spec/744777925?ad; Mount: Surface Mount; Operating Temperature Max: 125°C; Operating Temperature Min: -40°C; Packaging: Tape and Reel; Case/Size Code: 7345R; Length: 7.3mm; Width: 7.3mm; Height: 4.5mm; DC Resistance Max: 3620mOhm; Inductance: 560uH; Rated Current: 0.28A
footprint WE-PD_7345R
simulation model 7345_744777925_560u
pins: 1, 2

## 744777926
designator L?, comment 680uH, 0.23A  (value not drawn)
WE-PD SMT Power Inductor, size 7345R, 680uH, 0.23A, 4630mOhm; Manufacturer Part Number: 744777926; Manufacturer: Wurth Elektronik; DC Resistance: 2600mOhm; Saturation Current: 0.28A; Self Resonant Frequency: 2.7MHz; Type: Robust; Category: Power Inductors; Match Code: WE-PD; ComponentLink1Description: Website Link; ComponentLink1URL: https://www.we-online.com/redexpert/article/744777926?ad; ComponentLink2Description: Datasheet Link; ComponentLink2URL: https://www.we-online.com/redexpert/spec/744777926?ad; Mount: Surface Mount; Operating Temperature Max: 125°C; Operating Temperature Min: -40°C; Packaging: Tape and Reel; Case/Size Code: 7345R; Length: 7.3mm; Width: 7.3mm; Height: 4.5mm; DC Resistance Max: 4630mOhm; Inductance: 680uH; Rated Current: 0.23A
footprint WE-PD_7345R
simulation model 7345_744777926_680u
pins: 1, 2

## 744777928
designator L?, comment 820uH, 0.21A  (value not drawn)
WE-PD SMT Power Inductor, size 7345R, 820uH, 0.21A, 5200mOhm; Manufacturer Part Number: 744777928; Manufacturer: Wurth Elektronik; DC Resistance: 2960mOhm; Saturation Current: 0.26A; Self Resonant Frequency: 2.5MHz; Type: Robust; Category: Power Inductors; Match Code: WE-PD; ComponentLink1Description: Website Link; ComponentLink1URL: https://www.we-online.com/redexpert/article/744777928?ad; ComponentLink2Description: Datasheet Link; ComponentLink2URL: https://www.we-online.com/redexpert/spec/744777928?ad; Mount: Surface Mount; Operating Temperature Max: 125°C; Operating Temperature Min: -40°C; Packaging: Tape and Reel; Case/Size Code: 7345R; Length: 7.3mm; Width: 7.3mm; Height: 4.5mm; DC Resistance Max: 5200mOhm; Inductance: 820uH; Rated Current: 0.21A
footprint WE-PD_7345R
simulation model 7345_744777928_820u
pins: 1, 2

## 744777930
designator L?, comment 1000uH, 0.2A  (value not drawn)
WE-PD SMT Power Inductor, size 7345R, 1000uH, 0.2A, 6000mOhm; Manufacturer Part Number: 744777930; Manufacturer: Wurth Elektronik; DC Resistance: 3270mOhm; Saturation Current: 0.25A; Self Resonant Frequency: 2.2MHz; Type: Robust; Category: Power Inductors; Match Code: WE-PD; ComponentLink1Description: Website Link; ComponentLink1URL: https://www.we-online.com/redexpert/article/744777930?ad; ComponentLink2Description: Datasheet Link; ComponentLink2URL: https://www.we-online.com/redexpert/spec/744777930?ad; Mount: Surface Mount; Operating Temperature Max: 125°C; Operating Temperature Min: -40°C; Packaging: Tape and Reel; Case/Size Code: 7345R; Length: 7.3mm; Width: 7.3mm; Height: 4.5mm; DC Resistance Max: 6000mOhm; Inductance: 1000uH; Rated Current: 0.2A
footprint WE-PD_7345R
simulation model 7345_744777930_1000u
pins: 1, 2

## 744778001
designator L?, comment 1uH, 5.37A  (value not drawn)
WE-PD SMT Power Inductor, size 7332, 1uH, 5.37A, 12mOhm; Manufacturer Part Number: 744778001; Manufacturer: Wurth Elektronik; Case/Size Code: 7332; DC Resistance: 9mOhm; Saturation Current: 6.4A; Self Resonant Frequency: 115MHz; Type: Standard; Category: Power Inductors; Match Code: WE-PD; ComponentLink1Description: Website Link; ComponentLink1URL: https://www.we-online.com/redexpert/article/744778001?ad; ComponentLink2Description: Datasheet Link; ComponentLink2URL: https://www.we-online.com/redexpert/spec/744778001?ad; Mount: Surface Mount; Operating Temperature Max: 125°C; Operating Temperature Min: -40°C; Packaging: Tape and Reel; Length: 7.3mm; Width: 7.3mm; Height: 3.2mm; DC Resistance Max: 12mOhm; Inductance: 1uH; Rated Current: 5.37A
footprint WE-PD_7332
simulation model 7332_744778001_1u
pins: 1, 2

## 744778002
designator L?, comment 2.2uH, 4.02A  (value not drawn)
WE-PD SMT Power Inductor, size 7332, 2.2uH, 4.02A, 20mOhm; Manufacturer Part Number: 744778002; Manufacturer: Wurth Elektronik; Case/Size Code: 7332; DC Resistance: 14mOhm; Saturation Current: 4.8A; Self Resonant Frequency: 67MHz; Type: Standard; Category: Power Inductors; Match Code: WE-PD; ComponentLink1Description: Website Link; ComponentLink1URL: https://www.we-online.com/redexpert/article/744778002?ad; ComponentLink2Description: Datasheet Link; ComponentLink2URL: https://www.we-online.com/redexpert/spec/744778002?ad; Mount: Surface Mount; Operating Temperature Max: 125°C; Operating Temperature Min: -40°C; Packaging: Tape and Reel; Length: 7.3mm; Width: 7.3mm; Height: 3.2mm; DC Resistance Max: 20mOhm; Inductance: 2.2uH; Rated Current: 4.02A
footprint WE-PD_7332
simulation model 7332_744778002_2.2u
pins: 1, 2

## 744778003
designator L?, comment 3.3uH, 3.1A  (value not drawn)
WE-PD SMT Power Inductor, size 7332, 3.3uH, 3.1A, 32mOhm; Manufacturer Part Number: 744778003; Manufacturer: Wurth Elektronik; Case/Size Code: 7332; DC Resistance: 24mOhm; Saturation Current: 4.1A; Self Resonant Frequency: 61MHz; Type: Standard; Category: Power Inductors; Match Code: WE-PD; ComponentLink1Description: Website Link; ComponentLink1URL: https://www.we-online.com/redexpert/article/744778003?ad; ComponentLink2Description: Datasheet Link; ComponentLink2URL: https://www.we-online.com/redexpert/spec/744778003?ad; Mount: Surface Mount; Operating Temperature Max: 125°C; Operating Temperature Min: -40°C; Packaging: Tape and Reel; Length: 7.3mm; Width: 7.3mm; Height: 3.2mm; DC Resistance Max: 32mOhm; Inductance: 3.3uH; Rated Current: 3.1A
footprint WE-PD_7332
simulation model 7332_744778003_3.3u
pins: 1, 2

## 744778004
designator L?, comment 4.7uH, 2.32A  (value not drawn)
WE-PD SMT Power Inductor, size 7332, 4.7uH, 2.32A, 60mOhm; Manufacturer Part Number: 744778004; Manufacturer: Wurth Elektronik; Case/Size Code: 7332; DC Resistance: 42mOhm; Saturation Current: 4.2A; Self Resonant Frequency: 45MHz; Type: Standard; Category: Power Inductors; Match Code: WE-PD; ComponentLink1Description: Website Link; ComponentLink1URL: https://www.we-online.com/redexpert/article/744778004?ad; ComponentLink2Description: Datasheet Link; ComponentLink2URL: https://www.we-online.com/redexpert/spec/744778004?ad; Mount: Surface Mount; Operating Temperature Max: 125°C; Operating Temperature Min: -40°C; Packaging: Tape and Reel; Length: 7.3mm; Width: 7.3mm; Height: 3.2mm; DC Resistance Max: 60mOhm; Inductance: 4.7uH; Rated Current: 2.32A
footprint WE-PD_7332
simulation model 7332_744778004_4.7u
pins: 1, 2

## 744778005
designator L?, comment 0.54uH, 5.6A  (value not drawn)
WE-PD SMT Power Inductor, size 7332, 0.54uH, 5.6A, 8.5mOhm; Manufacturer Part Number: 744778005; Manufacturer: Wurth Elektronik; Case/Size Code: 7332; DC Resistance: 7.2mOhm; Saturation Current: 9A; Self Resonant Frequency: 155MHz; Type: Standard; Category: Power Inductors; Match Code: WE-PD; ComponentLink1Description: Website Link; ComponentLink1URL: https://www.we-online.com/redexpert/article/744778005?ad; ComponentLink2Description: Datasheet Link; ComponentLink2URL: https://www.we-online.com/redexpert/spec/744778005?ad; Mount: Surface Mount; Operating Temperature Max: 125°C; Operating Temperature Min: -40°C; Packaging: Tape and Reel; Length: 7.3mm; Width: 7.3mm; Height: 3.2mm; DC Resistance Max: 8.5mOhm; Inductance: 0.54uH; Rated Current: 5.6A
footprint WE-PD_7332
simulation model 7332_744778005_0.54u
pins: 1, 2